# Altium schematic symbol library BluePill.SchLib: 1 symbol
Pins are listed as number, name and electrical type; pins without a type are passive.

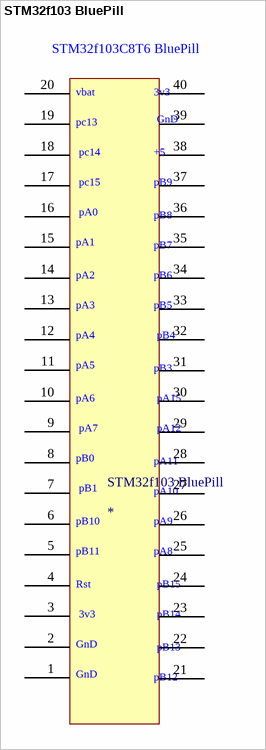
[diagram p0: symbol STM32f103 BluePill]

## STM32f103 BluePill
designator STM32f103 BluePill
footprint BluePill
pins: 1, 2, 3, 4, 5, 6, 7, 8, 9, 10, 11, 12, 13, 14, 15, 16, 17, 18, 19, 20, 21, 22, 23, 24, 25, 26, 27, 28, 29, 30, 31, 32, 33, 34, 35, 36, 37, 38, 39, 40
text: STM32f103C8T6 BluePill; vbat; 3v3; GnD; pc13; pc14; +5; pc15; pB9; pA0; pB8; pA1; pB7; pA2; pB6; pA3; pB5; pA4; pB4; pA5; pB3; pA6; pA15; pA7; pA12; pB0; pA11; pB1; pA10; pB10; pA9; pB11; pA8; Rst; pB15; pB14; pB13; pB12